# Altium footprint library DIPS762W70P254L762H510Q6N.PcbLib: 1 footprints
Each footprint in its own frame and in the unit in brackets; x right, y up, seen from the top. Pads: shape width x height; smd on the part's side, far side on the other; paste and mask are expansions set on the pad; w line width, h text height; cw(c..) or ccw(c..) is an arc to the next point about the centre after c.
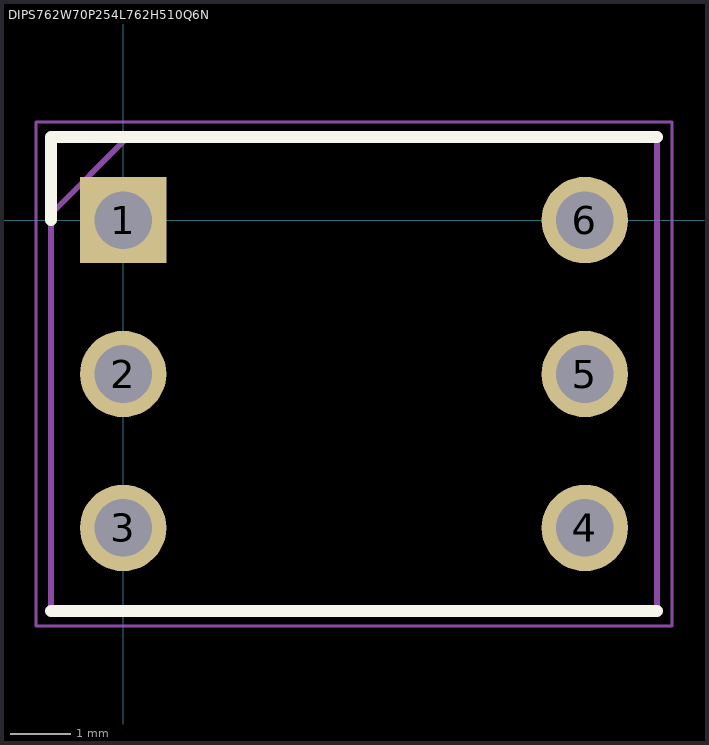
[diagram p0: the footprint, top view; thin cyan lines are the x and y axes]

## DIPS762W70P254L762H510Q6N [mm]
pads (6):
  rect 1.425x1.425 / inner round 1.425 / far side rect 1.425x1.425 hole 0.95: 1(0,0)
  round 1.425 hole 0.95: 2(0,-2.54) 3(0,-5.08) 4(7.62,-5.08) 5(7.62,-2.54) 6(7.62,0)
Top Overlay:
  lines w0.2: -1.19,-6.45 8.81,-6.45 ; -1.19,0 -1.19,1.37 8.81,1.37
Mechanical 15:
  lines w0.1: -1.19,0.1 0.08,1.37 ; -1.19,-6.45 8.81,-6.45 8.81,1.37 -1.19,1.37 -1.19,-6.45
Mechanical 20:
  lines w0.05: -1.44,-6.7 9.06,-6.7 9.06,1.62 -1.44,1.62 -1.44,-6.7